# Altium schematic symbol library L_SMD_3D.SchLib: 2 symbols
Pins are listed as number, name and electrical type; pins without a type are passive.

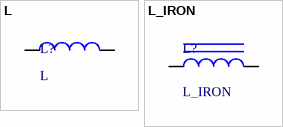
[diagram p0: symbols L to L_IRON]

## L
designator L?
Inductor; Modified_by: BEP; Modified: 10.2008
footprint L1608(0603) (Chip Inductor, Body 1.6x0.8mm)
footprint L2012(0805) (Chip Inductor; Body 2.0 x 1.2 mm)
footprint L3216(1206) (Chip Inductor; Body 3.2 x 1.6 mm)
footprint L4564(1825) (Chip Inductor; Body 4.5 x 6.4 mm)
footprint SPIRAL_COIL (Sample Coil)
footprint UP2B (Inductor)
footprint BLM21A (Ferrit Bead 2x1.25mm)
footprint WE-PD2 (COIL)
footprint WE-LQ (COIL)
footprint SRN8040 (Bourns; Dia 8mm)
pins: 1, 2

## L_IRON
designator L?
Magnetic-Core Inductor; Modified_by: BEP; Modified: 10.2008
pins: 1, 2